# Altium schematic symbol library SchLib1.SchLib: 5 symbols
Pins are listed as number, name and electrical type; pins without a type are passive.

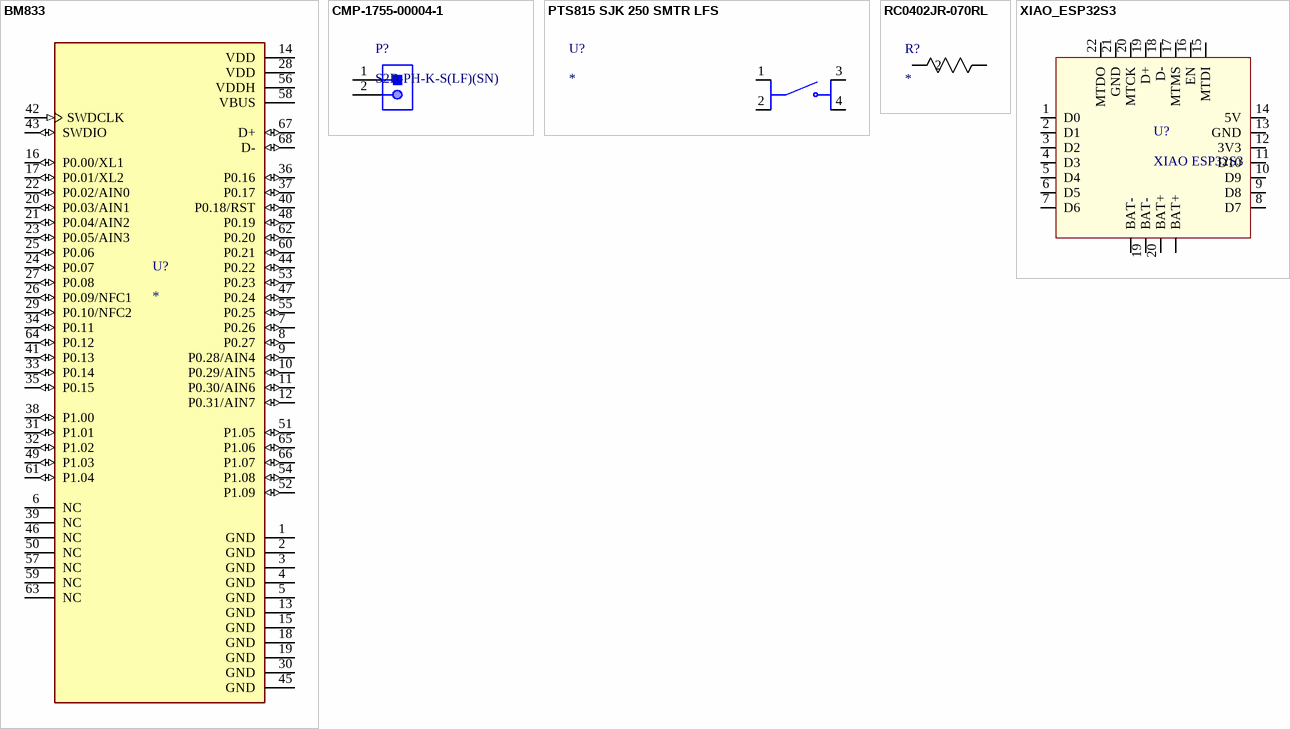
[diagram p0: symbols BM833 to XIAO_ESP32S3]

## BM833
designator U?
802.15.4, Bluetooth Bluetooth v5.1 Transceiver Module 2.4GHz PCB Trace Surface Mount; MF: Fanstel; MP: BM833; Package: None; Availability: In Stock; Purchase-URL: https://pricing.snapeda.com/search/part/BM833/?ref=eda; Value: *; SnapEDA_Link: https://www.snapeda.com/parts/BM833/Fanstel/view-part/?ref=snap; Price: None; Check_prices: https://www.snapeda.com/parts/BM833/Fanstel/view-part/?ref=eda
footprint XCVR_BM833
pins: 1 GND (power), 2 GND (power), 3 GND (power), 4 GND (power), 5 GND (power), 6 NC, 7 P0.26 (io), 8 P0.27 (io), 9 P0.28/AIN4 (io), 10 P0.29/AIN5 (io), 11 P0.30/AIN6 (io), 12 P0.31/AIN7 (io), 13 GND (power), 14 VDD (power), 15 GND (power), 16 P0.00/XL1 (io), 17 P0.01/XL2 (io), 18 GND (power), 19 GND (power), 20 P0.03/AIN1 (io), 21 P0.04/AIN2 (io), 22 P0.02/AIN0 (io), 23 P0.05/AIN3 (io), 24 P0.07 (io), 25 P0.06 (io), 26 P0.09/NFC1 (io), 27 P0.08 (io), 28 VDD (power), 29 P0.10/NFC2 (io), 30 GND (power), 31 P1.01 (io), 32 P1.02 (io), 33 P0.14 (io), 34 P0.11 (io), 35 P0.15 (io), 36 P0.16 (io), 37 P0.17 (io), 38 P1.00 (io), 39 NC, 40 P0.18/RST (io), 41 P0.13 (io), 42 SWDCLK (in), 43 SWDIO (io), 44 P0.22 (io), 45 GND (power), 46 NC, 47 P0.24 (io), 48 P0.19 (io), 49 P1.03 (io), 50 NC, 51 P1.05 (io), 52 P1.09 (io), 53 P0.23 (io), 54 P1.08 (io), 55 P0.25 (io), 56 VDDH (power), 57 NC, 58 VBUS (power), 59 NC, 60 P0.21 (io), 61 P1.04 (io), 62 P0.20 (io), 63 NC, 64 P0.12 (io), 65 P1.06 (io), 66 P1.07 (io), 67 D+ (io), 68 D- (io)

## CMP-1755-00004-1
designator P?, comment S2B-PH-K-S(LF)(SN)
Male Header, Pitch 2 mm, 1 x 2 Position, Height 4.8 mm, Tail Length 3.4 mm, -25 to 85 degC, RoHS, Bulk; Case\Package: Radial; Tolerance: 20%; Capacitance: 10 uF; Voltage Rating (DC): 50 V; Packaging: Bulk; ComponentLink1URL: http://www.jst-mfg.com/product/pdf/eng/ePH.pdf; Radiation Hardening: No; Height: 11 mm; Package Quantity: 200; PackageDescription: Male Header, Pitch 2 mm, 1 x 2 Position, Height 4.8 mm, Tail Length 3.4 mm; PackageReference: S2B-PH-K-S; Diameter: 5 mm; Pins: 2; Mount: Through Hole; Max Operating Temperature: 85 degC; Min Operating Temperature: -40 degC; ComponentLink1Description: Datasheet; DatasheetVersion: Dec-12; Length: 11 mm; Lead Pitch: 2 mm; REACH SVHC: No SVHC; Voltage Rating: 50 V; RoHSCompliant: true
footprint JST-S2B-PH-K-S_V (THD, 2-Leads, Body 7.6x5.9mm, Pitch 2mm)
pins: 1, 2

## PTS815 SJK 250 SMTR LFS
designator U?
No Description Available; Mfr_Name: C&K Components; RefDes: RefDes; Type: Type
footprint SWITCH_SMTR LFS
pins: 1, 2, 3, 4

## RC0402JR-070RL
designator R?
No Description Available; Mfr_Name: Yageo
footprint RC0402N_YAG
pins: 1, 2

## XIAO_ESP32S3
designator U?, comment XIAO ESP32S3
footprint XIAO_ESP32S3
pins: 1 D0, 2 D1, 3 D2, 4 D3, 5 D4, 6 D5, 7 D6, 8 D7, 9 D8, 10 D9, 11 D10, 12 3V3, 13 GND, 14 5V, 15 MTDI, 16 EN, 17 MTMS, 18 D-, 19 BAT-, 19 D+, 20 BAT+, 20 MTCK, 21 GND, 22 MTDO, BAT+, BAT-